# EAGLE library part TPS259520DSGR (library TPS259520DSG)
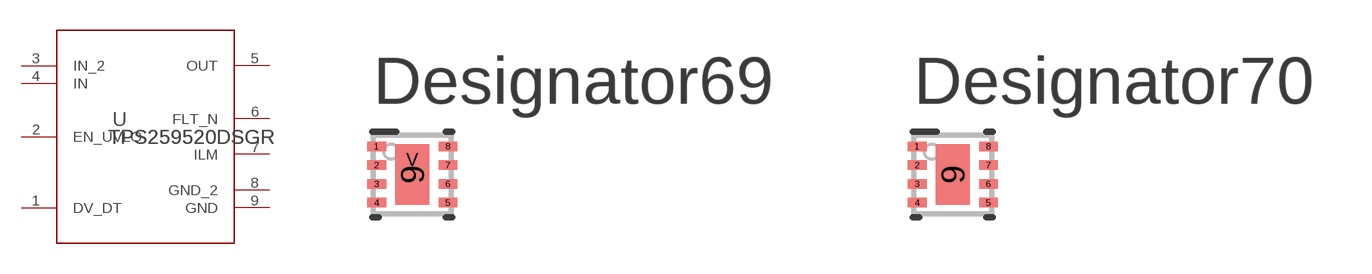
[diagram p0: symbol with the pads of DSG0008A; footprints DSG0008A, DSG0008A_NV]

Designator prefix U

## TPS259520DSGR (MANUFACTURER: Texas Instruments; PARTNUMBER: TPS259520DSGR; REFDES: RefDes; TYPE: TYPE; VALUE: Value)  [DSG0008A]
1  DV_DT
2  EN_UVLO  in
3  IN_2  pwr
4  IN  pwr
5  OUT  pwr
6  FLT_N  oc
7  ILM
8  GND_2  pwr
9  GND  pwr

## TPS259520DSGRDSG0008A_NV (MANUFACTURER: Texas Instruments; PARTNUMBER: TPS259520DSGR; REFDES: RefDes; TYPE: TYPE; VALUE: Value)  [DSG0008A_NV]
Pads as for DSG0008A

## Footprint DSG0008A (pad centres in mm)
smd 0.5 x 0.25: 1 -0.95,0.75; 2 -0.95,0.25; 3 -0.95,-0.25; 4 -0.95,-0.75; 5 0.95,-0.75; 6 0.95,-0.25; 7 0.95,0.25; 8 0.95,0.75
smd 0.9 x 1.6: 9 0,0
smd 0.5 x 0.5: V 0,0.4

## Footprint DSG0008A_NV (pad centres in mm)
smd 0.5 x 0.25: 1 -0.95,0.75; 2 -0.95,0.25; 3 -0.95,-0.25; 4 -0.95,-0.75; 5 0.95,-0.75; 6 0.95,-0.25; 7 0.95,0.25; 8 0.95,0.75
smd 0.9 x 1.6: 9 0,0